# Altium schematic symbol library conn_usbc.SchLib: 27 symbols
Pins are listed as number, name and electrical type; pins without a type are passive.

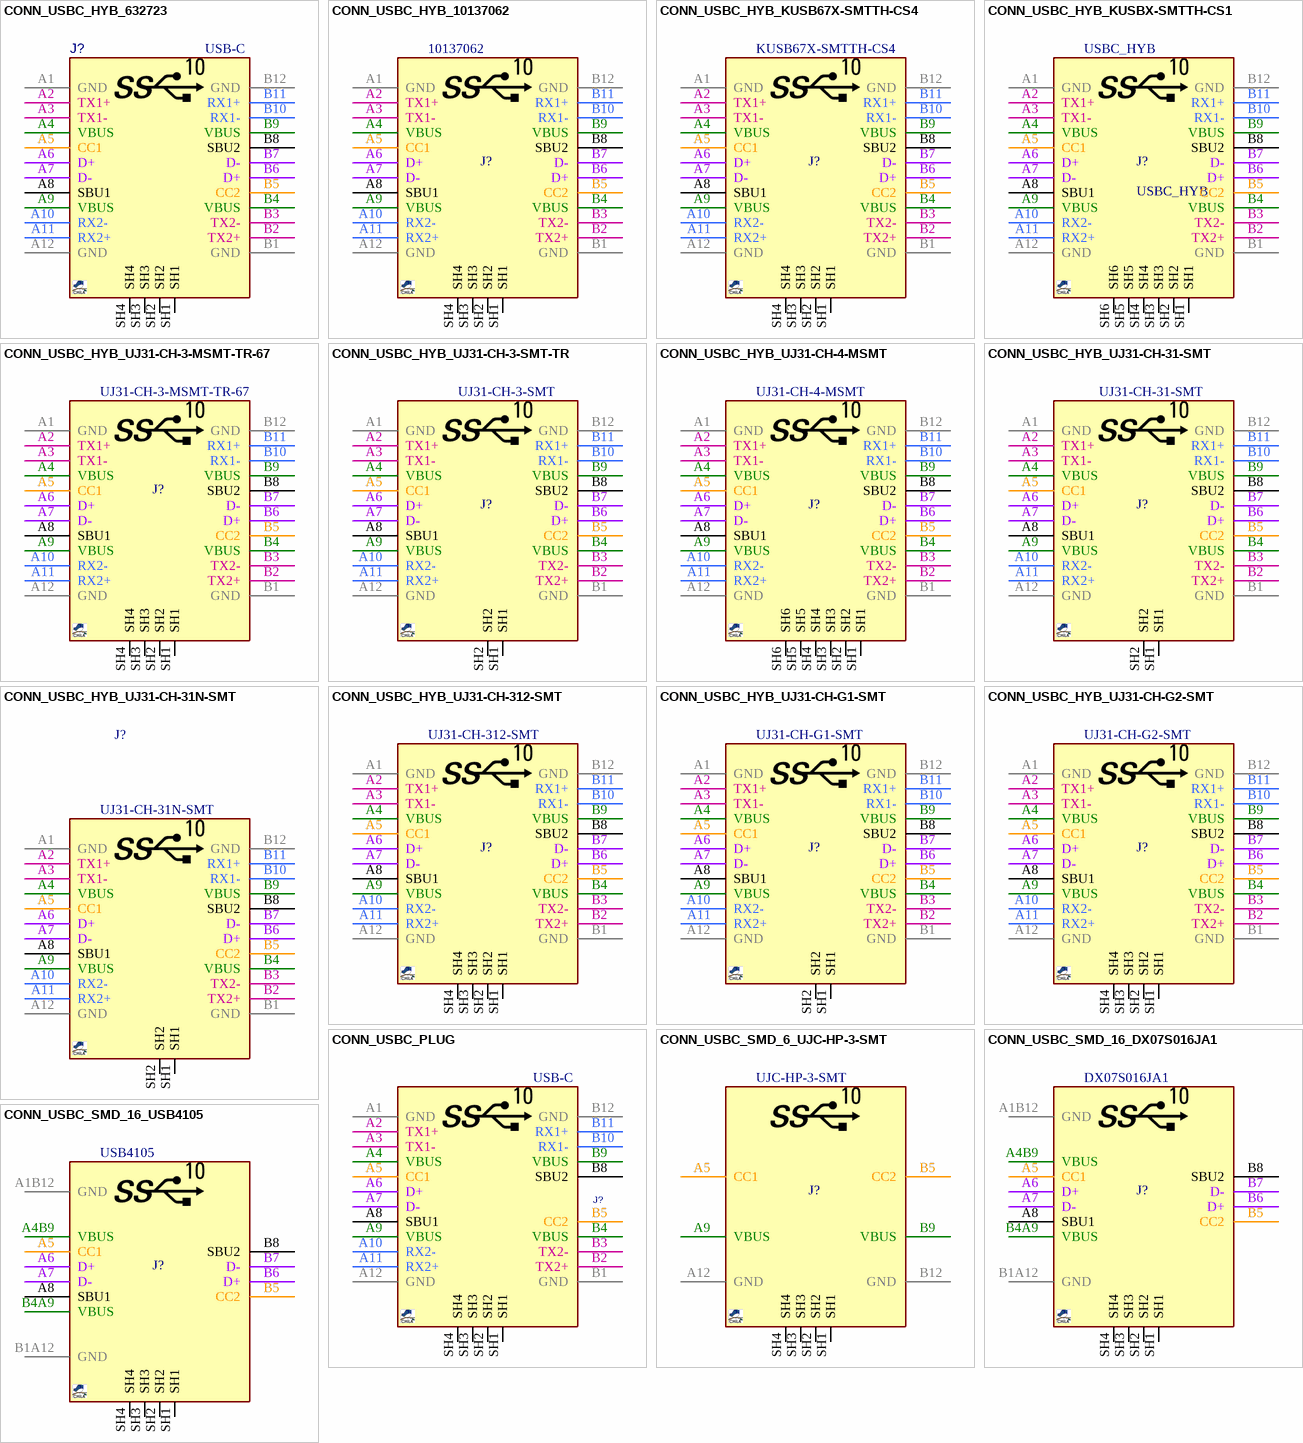
[diagram p0: symbols CONN_USBC_HYB_632723 to CONN_USBC_SMD_16_USB4105]

## CONN_USBC_HYB_632723
designator J?, comment USB-C
CONN, USB, Type C (USB3.1), Right-Angle, HYBRID; MANF: WURTH; MANF_P#: 632723100011, 632723300011; PARAM: Type C, Right-Angle; PRICE: -; VALUE: USB-C
footprint USBC_HYB_632723 (CONN, USB, Type C, USB 3.1, Receptacle Horizontal, 632723)
pins: A1 GND, A2 TX1+, A3 TX1-, A4 VBUS, A5 CC1, A6 D+, A7 D-, A8 SBU1, A9 VBUS, A10 RX2-, A11 RX2+, A12 GND, B1 GND, B2 TX2+, B3 TX2-, B4 VBUS, B5 CC2, B6 D+, B7 D-, B8 SBU2, B9 VBUS, B10 RX1-, B11 RX1+, B12 GND, SH1, SH2, SH3, SH4

## CONN_USBC_HYB_10137062
designator J?, comment 10137062
CONN, USB, Type C, USB 3.1 Gen 1, Right-Angle, HYBRID; MANF: Amphenol; MANF_P#: 10137062-00021LF; PARAM: 5A; Price: None; Value: 10137062
footprint USBC_HYB_10137062 (CONN, USB, Type C, 10137062)
pins: A1 GND, A2 TX1+, A3 TX1-, A4 VBUS, A5 CC1, A6 D+, A7 D-, A8 SBU1, A9 VBUS, A10 RX2-, A11 RX2+, A12 GND, B1 GND, B2 TX2+, B3 TX2-, B4 VBUS, B5 CC2, B6 D+, B7 D-, B8 SBU2, B9 VBUS, B10 RX1-, B11 RX1+, B12 GND, SH1, SH2, SH3, SH4

## CONN_USBC_HYB_KUSB67X-SMTTH-CS4
designator J?, comment KUSB67X-SMTTH-CS4
CONN, USB, Type C, USB 3.2 Gen 2, Right-Angle, HYBRID; MANF: Kycon; PARAM: 5A, IP67; Price: 6$; MANF_P#: KUSB67X-SMTTH-CS4; Value: KUSB67X-SMTTH-CS4
footprint USBC_HYB_KUSB67XSMTTHCS4 (CONN, USB, Type C, KUSB67X-SMTTH-CS4)
pins: A1 GND, A2 TX1+, A3 TX1-, A4 VBUS, A5 CC1, A6 D+, A7 D-, A8 SBU1, A9 VBUS, A10 RX2-, A11 RX2+, A12 GND, B1 GND, B2 TX2+, B3 TX2-, B4 VBUS, B5 CC2, B6 D+, B7 D-, B8 SBU2, B9 VBUS, B10 RX1-, B11 RX1+, B12 GND, SH1, SH2, SH3, SH4

## CONN_USBC_HYB_KUSBX-SMTTH-CS1
designator J?, comment USBC_HYB
CONN, USB, Type C, USB 3.1 Gen 2, Right-Angle, HYBRID; MANF: Kycon, CUI Devices; MANF_P#: KUSBX-SMTTH-CS1, UJ31-CH-314-SMT-TR; PARAM: 5A; Price: None; Value: USBC_HYB
footprint USBC_HYB_UJ31CH314SMT (CONN, USB, Type C, UJ31-CH-314-SMT)
pins: A1 GND, A2 TX1+, A3 TX1-, A4 VBUS, A5 CC1, A6 D+, A7 D-, A8 SBU1, A9 VBUS, A10 RX2-, A11 RX2+, A12 GND, B1 GND, B2 TX2+, B3 TX2-, B4 VBUS, B5 CC2, B6 D+, B7 D-, B8 SBU2, B9 VBUS, B10 RX1-, B11 RX1+, B12 GND, SH1, SH2, SH3, SH4, SH5, SH6

## CONN_USBC_HYB_UJ31-CH-3-MSMT-TR-67
designator J?, comment UJ31-CH-3-MSMT-TR-67
CONN, USB, Type C, Gen 2, Right-Angle, Mid Mount, HYBRID, Waterproof; MANF: CUI Devices; PARAM: 5A; Price: None; MANF_P#: UJ31-CH-3-MSMT-TR-67; Value: UJ31-CH-3-MSMT-TR-67
footprint USBC_HYB_UJ31CH3MSMT67 (CONN, USB, Type C, Gen 2, Right-Angle, Mid Mount, HYBRID, Waterproof, UJ31-CH-3-MSMT-TR-67)
pins: A1 GND, A2 TX1+, A3 TX1-, A4 VBUS, A5 CC1, A6 D+, A7 D-, A8 SBU1, A9 VBUS, A10 RX2-, A11 RX2+, A12 GND, B1 GND, B2 TX2+, B3 TX2-, B4 VBUS, B5 CC2, B6 D+, B7 D-, B8 SBU2, B9 VBUS, B10 RX1-, B11 RX1+, B12 GND, SH1, SH2, SH3, SH4

## CONN_USBC_HYB_UJ31-CH-3-SMT-TR
designator J?, comment UJ31-CH-3-SMT
CONN, USB, Type C, USB 3.1 Gen 2, Right-Angle, HYBRID; MANF: CUI Devices; MANF_P#: UJ31-CH-3-SMT-TR; PARAM: 5A; Price: None; Value: UJ31-CH-3-SMT
footprint USBC_HYB_UJ31CH3SMT (CONN, USB, Type C, USB 3.1 Gen 2, Right-Angle, HYBRID, UJ31-CH-3-SMT)
pins: A1 GND, A2 TX1+, A3 TX1-, A4 VBUS, A5 CC1, A6 D+, A7 D-, A8 SBU1, A9 VBUS, A10 RX2-, A11 RX2+, A12 GND, B1 GND, B2 TX2+, B3 TX2-, B4 VBUS, B5 CC2, B6 D+, B7 D-, B8 SBU2, B9 VBUS, B10 RX1-, B11 RX1+, B12 GND, SH1, SH2

## CONN_USBC_HYB_UJ31-CH-4-MSMT
designator J?, comment UJ31-CH-4-MSMT
CONN, USB, Type C, USB 3.1 Gen 2, Right-Angle, Mid Mount, HYBRID; MANF: CUI Devices; MANF_P#: UJ31-CH-4-MSMT-TR; PARAM: 5A; Price: None; Value: UJ31-CH-4-MSMT
footprint USBC_HYB_UJ31CH4MSMT (CONN, USB, Type C, UJ31-CH-4-MSMT)
pins: A1 GND, A2 TX1+, A3 TX1-, A4 VBUS, A5 CC1, A6 D+, A7 D-, A8 SBU1, A9 VBUS, A10 RX2-, A11 RX2+, A12 GND, B1 GND, B2 TX2+, B3 TX2-, B4 VBUS, B5 CC2, B6 D+, B7 D-, B8 SBU2, B9 VBUS, B10 RX1-, B11 RX1+, B12 GND, SH1, SH2, SH3, SH4, SH5, SH6

## CONN_USBC_HYB_UJ31-CH-31-SMT
designator J?, comment UJ31-CH-31-SMT
CONN, USB, Type C, USB 3.1 Gen 2, Right-Angle, Mid Mount, HYBRID; MANF: CUI Devices; MANF_P#: UJ31-CH-31-SMT-TR; PARAM: 5A; Price: None; Value: UJ31-CH-31-SMT
footprint USBC_HYB_UJ31CH31 (CONN, USB, Type C, UJ31-CH-31N-SMT, UJ31-CH-31-SMT)
pins: A1 GND, A2 TX1+, A3 TX1-, A4 VBUS, A5 CC1, A6 D+, A7 D-, A8 SBU1, A9 VBUS, A10 RX2-, A11 RX2+, A12 GND, B1 GND, B2 TX2+, B3 TX2-, B4 VBUS, B5 CC2, B6 D+, B7 D-, B8 SBU2, B9 VBUS, B10 RX1-, B11 RX1+, B12 GND, SH1, SH2

## CONN_USBC_HYB_UJ31-CH-31N-SMT
designator J?, comment UJ31-CH-31N-SMT
CONN, USB, Type C, USB 3.1 Gen 2, Right-Angle, HYBRID; MANF: CUI Devices; MANF_P#: UJ31-CH-31N-SMT-TR; Value: UJ31-CH-31N-SMT
footprint USBC_HYB_UJ31CH31NSMT (UJ31-CH-31N-SMT-TR)
pins: A1 GND, A2 TX1+, A3 TX1-, A4 VBUS, A5 CC1, A6 D+, A7 D-, A8 SBU1, A9 VBUS, A10 RX2-, A11 RX2+, A12 GND, B1 GND, B2 TX2+, B3 TX2-, B4 VBUS, B5 CC2, B6 D+, B7 D-, B8 SBU2, B9 VBUS, B10 RX1-, B11 RX1+, B12 GND, SH1, SH2

## CONN_USBC_HYB_UJ31-CH-312-SMT
designator J?, comment UJ31-CH-312-SMT
CONN, USB, Type C, USB 3.1 Gen 2, Right-Angle, HYBRID; MANF: CUI Devices; MANF_P#: UJ31-CH-312-SMT-TR; PARAM: 5A; Price: None; Value: UJ31-CH-312-SMT
footprint USBC_HYB_UJ31CH312SMT (CONN, USB, Type C, UJ31-CH-312-SMT)
pins: A1 GND, A2 TX1+, A3 TX1-, A4 VBUS, A5 CC1, A6 D+, A7 D-, A8 SBU1, A9 VBUS, A10 RX2-, A11 RX2+, A12 GND, B1 GND, B2 TX2+, B3 TX2-, B4 VBUS, B5 CC2, B6 D+, B7 D-, B8 SBU2, B9 VBUS, B10 RX1-, B11 RX1+, B12 GND, SH1, SH2, SH3, SH4

## CONN_USBC_HYB_UJ31-CH-G1-SMT
designator J?, comment UJ31-CH-G1-SMT
CONN, USB, Type C, USB 3.1 Gen 2, Right-Angle, HYBRID; MANF: CUI Devices; MANF_P#: UJ31-CH-G1-SMT-TR; PARAM: 5A; Price: None; Value: UJ31-CH-G1-SMT
footprint USBC_HYB_UJ31CHG1SMT (CONN, USB, Type C, UJ31-CH-G1-SMT)
pins: A1 GND, A2 TX1+, A3 TX1-, A4 VBUS, A5 CC1, A6 D+, A7 D-, A8 SBU1, A9 VBUS, A10 RX2-, A11 RX2+, A12 GND, B1 GND, B2 TX2+, B3 TX2-, B4 VBUS, B5 CC2, B6 D+, B7 D-, B8 SBU2, B9 VBUS, B10 RX1-, B11 RX1+, B12 GND, SH1, SH2

## CONN_USBC_HYB_UJ31-CH-G2-SMT
designator J?, comment UJ31-CH-G2-SMT
CONN, USB, Type C, USB 3.1 Gen 2, Right-Angle, HYBRID; MANF: CUI Devices; MANF_P#: UJ31-CH-G2-SMT-TR; PARAM: 5A; Price: None; Value: UJ31-CH-G2-SMT
footprint USBC_HYB_UJ31CHG2SMT (CONN, USB, Type C, UJ31-CH-G2-SMT)
pins: A1 GND, A2 TX1+, A3 TX1-, A4 VBUS, A5 CC1, A6 D+, A7 D-, A8 SBU1, A9 VBUS, A10 RX2-, A11 RX2+, A12 GND, B1 GND, B2 TX2+, B3 TX2-, B4 VBUS, B5 CC2, B6 D+, B7 D-, B8 SBU2, B9 VBUS, B10 RX1-, B11 RX1+, B12 GND, SH1, SH2, SH3, SH4

## CONN_USBC_PLUG
designator J?, comment USB-C
CONN, USB, Type C (USB3.1), PLUG SMD; MANF: WURTH; MANF_P#: 632712000011; PARAM: Type C, Right-Angle; PRICE: -; VALUE: USB-C
footprint USB_C_PLUG (CONN, USB C , PLUG)
pins: A1 GND, A2 TX1+, A3 TX1-, A4 VBUS, A5 CC1, A6 D+, A7 D-, A8 SBU1, A9 VBUS, A10 RX2-, A11 RX2+, A12 GND, B1 GND, B2 TX2+, B3 TX2-, B4 VBUS, B5 CC2, B8 SBU2, B9 VBUS, B10 RX1-, B11 RX1+, B12 GND, SH1, SH2, SH3, SH4

## CONN_USBC_SMD_6_UJC-HP-3-SMT
designator J?, comment UJC-HP-3-SMT
CONN, USB, Type C (USB 3.1), Right-Angle, SMD; MANF: CUI Devices; PARAM2: 20v; PARAM: Power Only, 3A; Price: 0.8$; MANF_P#: UJC-HP-3-SMT; Value: UJC-HP-3-SMT
footprint USBC_SMD_6_UJCHP3SMT (CONN, USB, Type C, UJC-HP-3-SMT, popular*)
pins: A5 CC1, A9 VBUS, A12 GND, B5 CC2, B9 VBUS, B12 GND, SH1, SH2, SH3, SH4

## CONN_USBC_SMD_16_DX07S016JA1
designator J?, comment DX07S016JA1
CONN, USB, Type C, USB 2.0, Right-Angle, SMD; MANF: JAE; MANF_P#: DX07S016JA1R1500; PARAM: 5A; Price: 1.5$; Value: DX07S016JA1
footprint USBC_SMD_16_DX07S016JA1 (CONN, USB, Type C, DX07S016JA1, popular*)
pins: A1B12 GND, A4B9 VBUS, A5 CC1, A6 D+, A7 D-, A8 SBU1, B1A12 GND, B4A9 VBUS, B5 CC2, B6 D+, B7 D-, B8 SBU2, SH1, SH2, SH3, SH4

## CONN_USBC_SMD_16_USB4105
designator J?, comment USB4105
CONN, USB, Type C, USB 2.0, Right-Angle, SMD; MANF: GCT; MANF_P#: USB4105-GF-A; PARAM: 5A; Price: 1.5$; Value: USB4105
footprint USBC_SMD_16_USB4105 (CONN, USB, Type C, USB4105, popular*)
pins: A1B12 GND, A4B9 VBUS, A5 CC1, A6 D+, A7 D-, A8 SBU1, B1A12 GND, B4A9 VBUS, B5 CC2, B6 D+, B7 D-, B8 SBU2, SH1, SH2, SH3, SH4

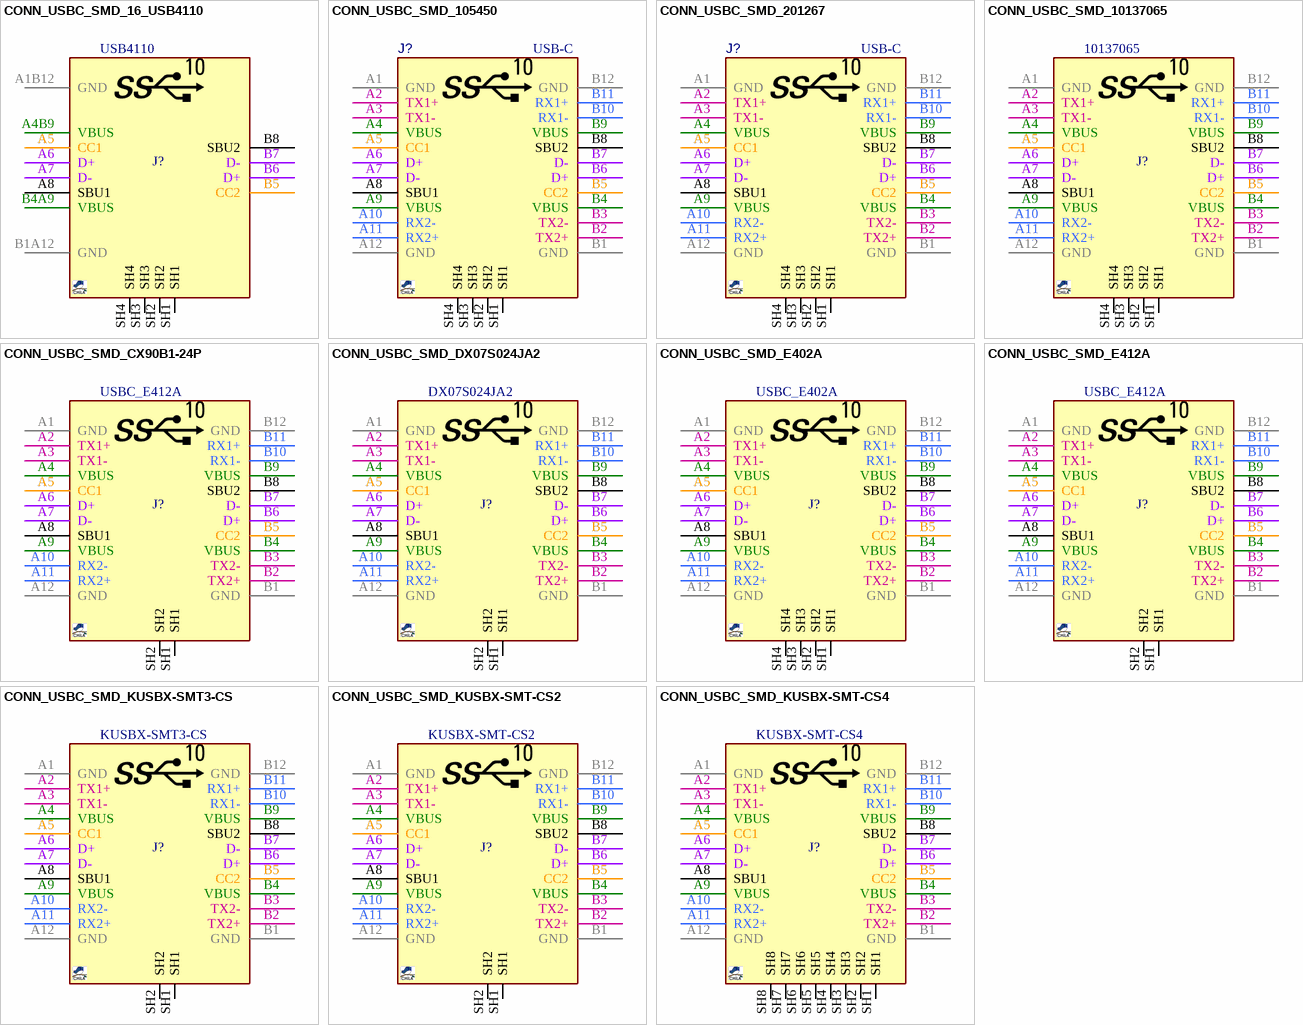
[diagram p1: symbols CONN_USBC_SMD_16_USB4110 to CONN_USBC_SMD_KUSBX-SMT-CS4]

## CONN_USBC_SMD_16_USB4110
designator J?, comment USB4110
CONN, USB, Type C, USB 2.0, Right-Angle, SMD; MANF: GCT; MANF_P#: USB4110-GF-A; PARAM: 5A; Price: 1.5$; Value: USB4110
footprint USBC_SMD_16_USB4110 (CONN, USB, Type C, USB4110)
pins: A1B12 GND, A4B9 VBUS, A5 CC1, A6 D+, A7 D-, A8 SBU1, B1A12 GND, B4A9 VBUS, B5 CC2, B6 D+, B7 D-, B8 SBU2, SH1, SH2, SH3, SH4

## CONN_USBC_SMD_105450
designator J?, comment USB-C
CONN, USB, Type C (USB3.1), Right-Angle, SMD; MANF: MOLEX; MANF_P#: 105450-0101; PARAM: Type C, Right-Angle; PRICE: 2$; VALUE: USB-C
footprint USBC_SMD_105450 (USB 3.1 Type C Receptacle Horizontal, SMD)
pins: A1 GND, A2 TX1+, A3 TX1-, A4 VBUS, A5 CC1, A6 D+, A7 D-, A8 SBU1, A9 VBUS, A10 RX2-, A11 RX2+, A12 GND, B1 GND, B2 TX2+, B3 TX2-, B4 VBUS, B5 CC2, B6 D+, B7 D-, B8 SBU2, B9 VBUS, B10 RX1-, B11 RX1+, B12 GND, SH1, SH2, SH3, SH4

## CONN_USBC_SMD_201267
designator J?, comment USB-C
CONN, USB, Type C (USB3.1), Right-Angle, SMD; MANF: MOLEX; MANF_P#: 2012670005-000; PARAM: Type C, Right-Angle; PRICE: 2$; VALUE: USB-C
footprint USBC_SMD_201267 (CONN, USB, Type C, SMD)
pins: A1 GND, A2 TX1+, A3 TX1-, A4 VBUS, A5 CC1, A6 D+, A7 D-, A8 SBU1, A9 VBUS, A10 RX2-, A11 RX2+, A12 GND, B1 GND, B2 TX2+, B3 TX2-, B4 VBUS, B5 CC2, B6 D+, B7 D-, B8 SBU2, B9 VBUS, B10 RX1-, B11 RX1+, B12 GND, SH1, SH2, SH3, SH4

## CONN_USBC_SMD_10137065
designator J?, comment 10137065
CONN, USB, Type C, USB 3.1 Gen 1, Right-Angle, SMD; MANF: Amphenol; MANF_P#: 10137065-00021LF; PARAM: 5A; Price: None; Value: 10137065
footprint USBC_HYB_UJ31CHG2SMT (CONN, USB, Type C, UJ31-CH-G2-SMT)
pins: A1 GND, A2 TX1+, A3 TX1-, A4 VBUS, A5 CC1, A6 D+, A7 D-, A8 SBU1, A9 VBUS, A10 RX2-, A11 RX2+, A12 GND, B1 GND, B2 TX2+, B3 TX2-, B4 VBUS, B5 CC2, B6 D+, B7 D-, B8 SBU2, B9 VBUS, B10 RX1-, B11 RX1+, B12 GND, SH1, SH2, SH3, SH4

## CONN_USBC_SMD_CX90B1-24P
designator J?, comment USBC_E412A
CONN, USB, Type C, USB 3.1 Gen 2, Right-Angle, SMD; MANF: Hirose; MANF_P#: CX90B1-24P; PARAM: 5A; Price: 2.5$; Value: USBC_E412A
footprint USBC_SMD_E412A (CONN, USB, Type C, SMD, 12401899E412A)
pins: A1 GND, A2 TX1+, A3 TX1-, A4 VBUS, A5 CC1, A6 D+, A7 D-, A8 SBU1, A9 VBUS, A10 RX2-, A11 RX2+, A12 GND, B1 GND, B2 TX2+, B3 TX2-, B4 VBUS, B5 CC2, B6 D+, B7 D-, B8 SBU2, B9 VBUS, B10 RX1-, B11 RX1+, B12 GND, SH1, SH2

## CONN_USBC_SMD_DX07S024JA2
designator J?, comment DX07S024JA2
CONN, USB, Type C, USB 3.2, Right-Angle, SMD; MANF: Amphenol; MANF_P#: DX07S024JA2R1200; PARAM: 5A; Price: 2$; Value: DX07S024JA2
footprint USBC_SMD_DX07S024JA2 (CONN, USB, Type C, DX07S024JA2)
pins: A1 GND, A2 TX1+, A3 TX1-, A4 VBUS, A5 CC1, A6 D+, A7 D-, A8 SBU1, A9 VBUS, A10 RX2-, A11 RX2+, A12 GND, B1 GND, B2 TX2+, B3 TX2-, B4 VBUS, B5 CC2, B6 D+, B7 D-, B8 SBU2, B9 VBUS, B10 RX1-, B11 RX1+, B12 GND, SH1, SH2

## CONN_USBC_SMD_E402A
designator J?, comment USBC_E402A
CONN, USB, Type C, USB 3.1 Gen 2, Right-Angle, SMD; MANF: Amphenol; MANF_P#: 12401598E4#2A, 12401610E4#2A, 12401832E402A; PARAM: 5A; Price: 1.7$; Value: USBC_E402A
footprint USBC_SMD_E402A (CONN, USB, Type C, SMD, 12401598E4#2A, 12401610E4#2A)
pins: A1 GND, A2 TX1+, A3 TX1-, A4 VBUS, A5 CC1, A6 D+, A7 D-, A8 SBU1, A9 VBUS, A10 RX2-, A11 RX2+, A12 GND, B1 GND, B2 TX2+, B3 TX2-, B4 VBUS, B5 CC2, B6 D+, B7 D-, B8 SBU2, B9 VBUS, B10 RX1-, B11 RX1+, B12 GND, SH1, SH2, SH3, SH4

## CONN_USBC_SMD_E412A
designator J?, comment USBC_E412A
CONN, USB, Type C, USB 3.1 Gen 2, Right-Angle, SMD; MANF: Amphenol; MANF_P#: 12401849E412A, 12401899E412A; PARAM: 5A; Price: 1.7$; Value: USBC_E412A
footprint USBC_SMD_E412A (CONN, USB, Type C, SMD, 12401899E412A)
pins: A1 GND, A2 TX1+, A3 TX1-, A4 VBUS, A5 CC1, A6 D+, A7 D-, A8 SBU1, A9 VBUS, A10 RX2-, A11 RX2+, A12 GND, B1 GND, B2 TX2+, B3 TX2-, B4 VBUS, B5 CC2, B6 D+, B7 D-, B8 SBU2, B9 VBUS, B10 RX1-, B11 RX1+, B12 GND, SH1, SH2

## CONN_USBC_SMD_KUSBX-SMT3-CS
designator J?, comment KUSBX-SMT3-CS
CONN, USB, Type C, USB 3.1 Gen 2, Right-Angle, SMD; MANF: Kycon; PARAM: 5A; Price: 2.7$; MANF_P#: KUSBX-SMT3-CS; Value: KUSBX-SMT3-CS
footprint USBC_SMD_KUSBXSMT3CS (CONN, USB, Type C, KUSBX-SMT3-CS)
pins: A1 GND, A2 TX1+, A3 TX1-, A4 VBUS, A5 CC1, A6 D+, A7 D-, A8 SBU1, A9 VBUS, A10 RX2-, A11 RX2+, A12 GND, B1 GND, B2 TX2+, B3 TX2-, B4 VBUS, B5 CC2, B6 D+, B7 D-, B8 SBU2, B9 VBUS, B10 RX1-, B11 RX1+, B12 GND, SH1, SH2

## CONN_USBC_SMD_KUSBX-SMT-CS2
designator J?, comment KUSBX-SMT-CS2
CONN, USB, Type C, USB 3.1 Gen 2, Right-Angle, SMD; MANF: Kycon; PARAM: 5A; Price: 2.7$; MANF_P#: KUSBX-SMT-CS2; Value: KUSBX-SMT-CS2
footprint USBC_SMD_KUSBXSMTCS2 (CONN, USB, Type C, KUSBX-SMT-CS2)
pins: A1 GND, A2 TX1+, A3 TX1-, A4 VBUS, A5 CC1, A6 D+, A7 D-, A8 SBU1, A9 VBUS, A10 RX2-, A11 RX2+, A12 GND, B1 GND, B2 TX2+, B3 TX2-, B4 VBUS, B5 CC2, B6 D+, B7 D-, B8 SBU2, B9 VBUS, B10 RX1-, B11 RX1+, B12 GND, SH1, SH2

## CONN_USBC_SMD_KUSBX-SMT-CS4
designator J?, comment KUSBX-SMT-CS4
CONN, USB, Type C, USB 3.1 Gen 2, Right-Angle, SMD; MANF: Kycon; PARAM: 5A; Price: 2.7$; MANF_P#: KUSBX-SMT-CS4; Value: KUSBX-SMT-CS4
footprint USBC_SMD_KUSBXSMTCS4 (CONN, USB, Type C, KUSBX-SMT-CS4)
pins: A1 GND, A2 TX1+, A3 TX1-, A4 VBUS, A5 CC1, A6 D+, A7 D-, A8 SBU1, A9 VBUS, A10 RX2-, A11 RX2+, A12 GND, B1 GND, B2 TX2+, B3 TX2-, B4 VBUS, B5 CC2, B6 D+, B7 D-, B8 SBU2, B9 VBUS, B10 RX1-, B11 RX1+, B12 GND, SH1, SH2, SH3, SH4, SH5, SH6, SH7, SH8